# Altium footprint library PcbLib1.PcbLib: 25 footprints (part 2 of 2)
Each footprint in its own frame and in the unit in brackets; x right, y up, seen from the top. Pads: shape width x height; smd on the part's side, far side on the other; paste and mask are expansions set on the pad; w line width, h text height; cw(c..) or ccw(c..) is an arc to the next point about the centre after c.
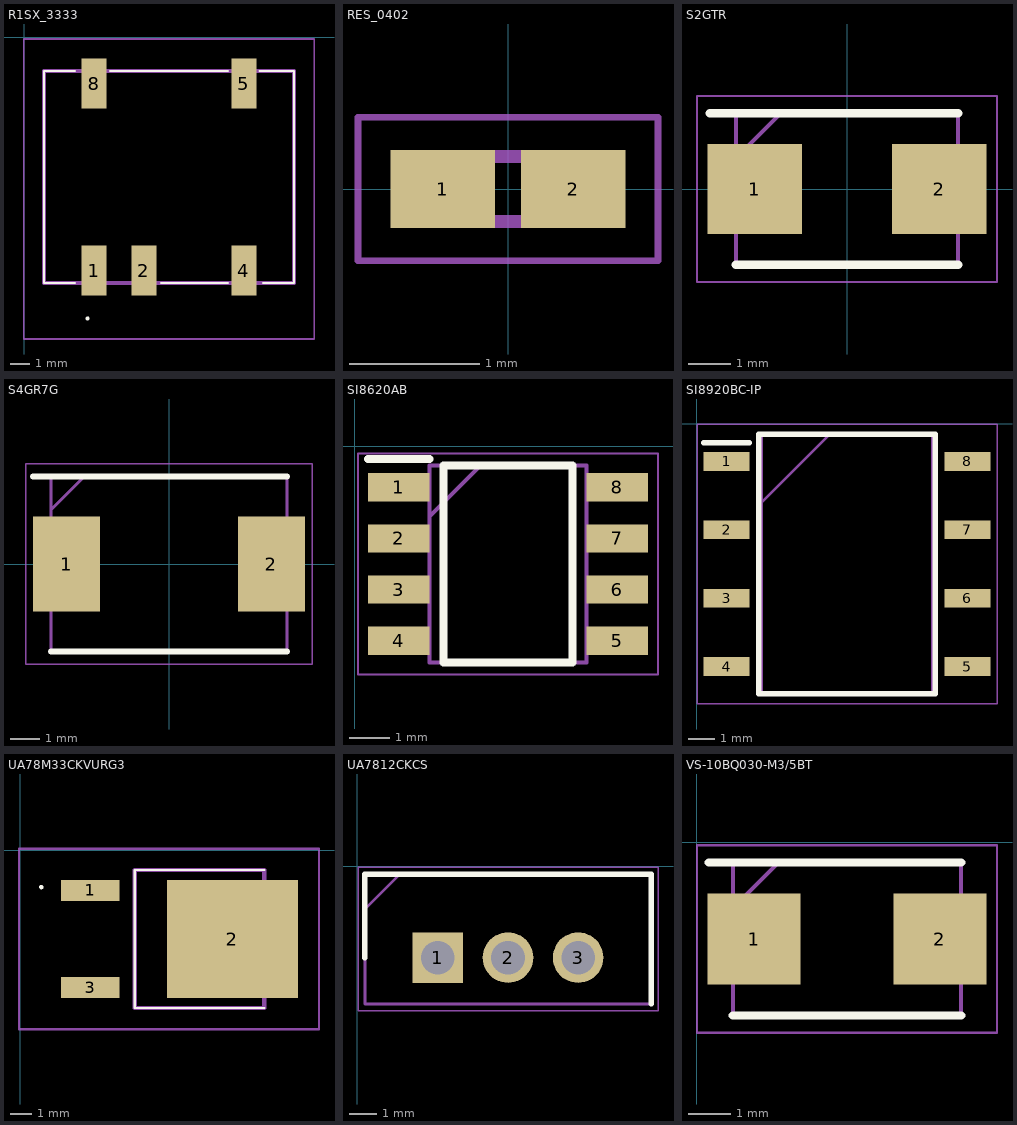
[diagram p1: the footprints below, top view; thin cyan lines are the x and y axes]

## R1SX_3333 [mm]
pads (5):
  rect 1.27x2.54 smd: 1(3.551,-11.877) 2(6.091,-11.877) 4(11.181,-11.877) 5(11.181,-2.347) 8(3.551,-2.347)
Top Overlay:
  lines w0.1: 2.566,-12.512 0.991,-12.512 0.991,-1.712 2.566,-1.712 ; 4.366,-1.712 10.366,-1.712 ; 6.966,-12.512 10.366,-12.512 ; 11.966,-1.712 13.741,-1.712 13.741,-12.512 12.166,-12.512 ; 3.166,-14.312 cw(c3.216,-14.312) 3.266,-14.312 cw(c3.216,-14.312) 3.166,-14.312
Mechanical 15:
  lines w0.2: 0.991,-12.512 0.991,-1.712 13.741,-1.712 13.741,-12.512 0.991,-12.512
Mechanical 20:
  lines w0.1: -0.034,-15.362 -0.034,-0.077 14.766,-0.077 14.766,-15.362 -0.034,-15.362
3D body "R1SX-3.33.3-R.stp": height 6.25, standoff 0, extent 0.991,-13.02 13.741,-1.204

## RES_0402 [mm]
pads (2):
  rect 0.8x0.6 smd: 1(-0.5,0) 2(0.5,0)
Mechanical 15:
  lines w0.1: -0.5,-0.25 -0.5,0.25 0.5,0.25 0.5,-0.25 -0.5,-0.25
Mechanical 20:
  lines w0.05: -1.15,-0.55 -1.15,0.55 1.15,0.55 1.15,-0.55 -1.15,-0.55
3D body "RMCF0402ZT0R00.stp": height 0.4, standoff 0, extent -0.5,-0.25 0.5,0.25

## S2GTR [mm]
pads (2):
  rect 2.25x2.15 smd: 1(-2.2,0) 2(2.2,0)
Top Overlay:
  lines w0.2: -3.275,1.81 2.648,1.81 ; -2.648,-1.81 2.648,-1.81
Mechanical 15:
  lines w0.1: -2.648,0.735 -1.572,1.81 ; -2.648,-1.81 -2.648,1.81 2.648,1.81 2.648,-1.81 -2.648,-1.81
Mechanical 20:
  lines w0.05: -3.575,-2.22 -3.575,2.22 3.575,2.22 3.575,-2.22 -3.575,-2.22
3D body "S1AB-13-F.stp": height 2.5, standoff 0, extent -2.647,-1.81 2.648,1.81

## S4GR7G [mm]
pads (2):
  rect 2.25x3.2 smd: 1(-3.45,0) 2(3.45,0)
Top Overlay:
  lines w0.2: -4.575,2.95 3.975,2.95 ; -3.975,-2.95 3.975,-2.95
Mechanical 15:
  lines w0.1: -3.975,1.825 -2.85,2.95 ; -3.975,-2.95 -3.975,2.95 3.975,2.95 3.975,-2.95 -3.975,-2.95
Mechanical 20:
  lines w0.05: -4.825,-3.375 -4.825,3.375 4.825,3.375 4.825,-3.375 -4.825,-3.375
3D body "S3M.stp": height 2.65, standoff 0, extent -3.975,-2.823 3.975,3.077

## SI8620AB [mm]
pads (8):
  rect 1.525x0.7 smd: 1(1.098,-1.016) 2(1.098,-2.286) 3(1.098,-3.556) 4(1.098,-4.826) 5(6.522,-4.826) 6(6.522,-3.556) 7(6.522,-2.286) 8(6.522,-1.016)
Top Overlay:
  lines w0.2: 0.335,-0.316 1.86,-0.316 ; 2.21,-5.371 2.21,-0.471 5.41,-0.471 5.41,-5.371 2.21,-5.371
Mechanical 15:
  lines w0.1: 1.86,-1.741 3.13,-0.471 ; 1.86,-5.371 1.86,-0.471 5.76,-0.471 5.76,-5.371 1.86,-5.371
Mechanical 20:
  lines w0.05: 0.085,-5.671 0.085,-0.171 7.535,-0.171 7.535,-5.671 0.085,-5.671
3D body "SI8620AB-B-ISR.stp": height 1.75, standoff 0, extent 0.81,-5.371 6.81,-0.471

## SI8920BC-IP [mm]
pads (8):
  rect 1.7x0.7 smd: 1(1.113,-1.397) 2(1.113,-3.937) 3(1.113,-6.477) 4(1.113,-9.017) 5(10.063,-9.017) 6(10.063,-6.477) 7(10.063,-3.937) 8(10.063,-1.397)
Top Overlay:
  lines w0.2: 0.263,-0.697 1.963,-0.697 ; 2.313,-10.032 2.313,-0.382 8.863,-0.382 8.863,-10.032 2.313,-10.032
Mechanical 15:
  lines w0.1: 2.413,-2.922 4.953,-0.382 ; 2.413,-10.032 2.413,-0.382 8.763,-0.382 8.763,-10.032 2.413,-10.032
Mechanical 20:
  lines w0.05: 0.013,-10.407 0.013,-0.007 11.163,-0.007 11.163,-10.407 0.013,-10.407
3D body "SI8920BC-IP.stp": height 4.19, standoff 0, extent 0.89,-10.032 10.54,-0.382

## UA78M33CKVURG3 [mm]
pads (3):
  rect 2.75x1 smd: 1(3.302,-1.901) 3(3.302,-6.481)
  rect 6.15x5.55 smd: 2(10.002,-4.191)
Top Overlay:
  lines w0.1: 11.502,-7.441 5.402,-7.441 5.402,-0.941 11.502,-0.941
  lines w0.104: 0.949,-1.747 cw(c1.001,-1.747) 1.053,-1.747 cw(c1.001,-1.747) 0.949,-1.747
Mechanical 15:
  lines w0.2: 5.402,-7.441 5.402,-0.941 11.502,-0.941 11.502,-7.441 5.402,-7.441
Mechanical 20:
  lines w0.1: -0.051,-8.441 -0.051,0.059 14.077,0.059 14.077,-8.441 -0.051,-8.441
3D body "UA78M33CKVURG3.stp": height 2.62, standoff 0, extent 3.529,-7.441 11.629,-0.941

## UA7812CKCS [mm]
pads (3):
  rect 1.83x1.83 / inner round 1.83 / far side rect 1.83x1.83 hole 1.22: 1(2.921,-3.302)
  round 1.83 hole 1.22: 2(5.461,-3.302) 3(8.001,-3.302)
Top Overlay:
  lines w0.2: 0.281,-3.302 0.281,-0.277 10.641,-0.277 10.641,-4.977
Mechanical 15:
  lines w0.1: 0.281,-1.547 1.551,-0.277 ; 0.281,-4.977 0.281,-0.277 10.641,-0.277 10.641,-4.977 0.281,-4.977
Mechanical 20:
  lines w0.05: 0.031,-5.227 0.031,-0.027 10.891,-0.027 10.891,-5.227 0.031,-5.227
3D body "UA7812CKCS.stp": height 19.35, standoff -18.3, extent 0.381,-4.977 10.541,-0.277

## VS-10BQ030-M3/5BT [mm]
pads (2):
  rect 2.2x2.15 smd: 1(1.356,-2.286) 2(5.756,-2.286)
Top Overlay:
  lines w0.2: 0.281,-0.476 6.256,-0.476 ; 0.856,-4.096 6.256,-4.096
Mechanical 15:
  lines w0.1: 0.856,-1.551 1.931,-0.476 ; 0.856,-4.096 6.256,-4.096 6.256,-0.476 0.856,-0.476 0.856,-4.096
Mechanical 20:
  lines w0.05: 0.006,-4.506 7.106,-4.506 7.106,-0.066 0.006,-0.066 0.006,-4.506
3D body "VS-10BQ030-M3_5BT.stp": height 2.44, standoff 0, extent 0.856,-4.223 6.256,-0.603